# EAGLE library part PGA2320IDW (library Fugu_LSI)
Stereo Audio Volume Control
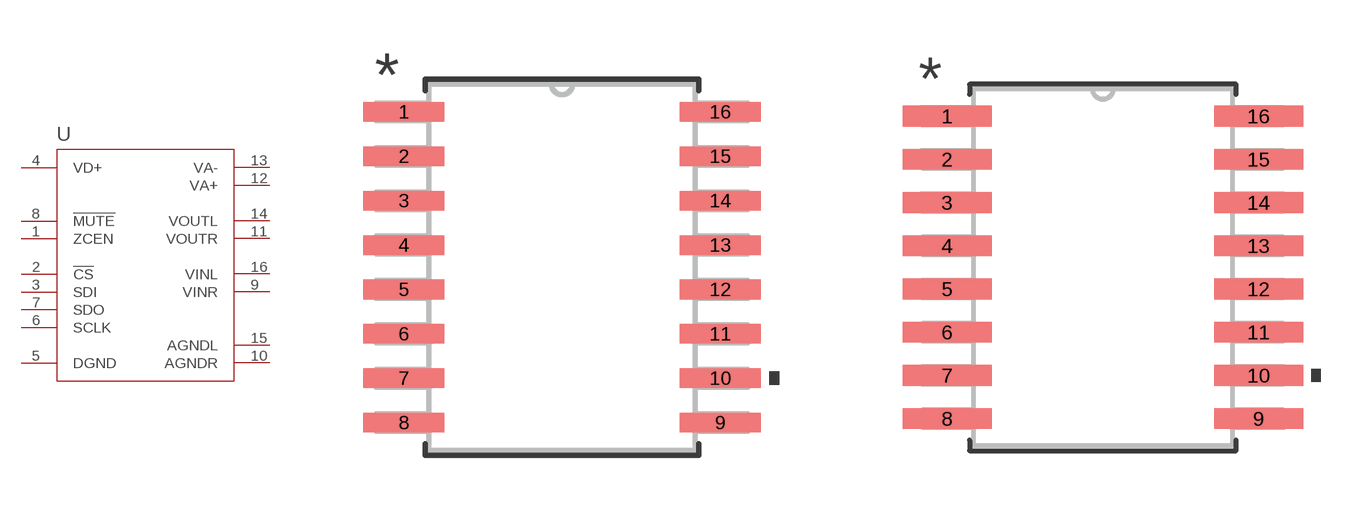
[diagram p34: symbol with the pads of DW16; footprints DW16, DW16-M]

Designator prefix U

## PGA2320IDW (MANUFACTURER_PART_NUMBER: PGA2320IDW; VENDOR: Texas Instruments)  [DW16]
1  ZCEN  in
2  !CS  in
3  SDI  in
4  VD+  pwr
5  DGND  pwr
6  SCLK  in
7  SDO  out
8  !MUTE  in
9  VINR  in
10  AGNDR  pwr
11  VOUTR  out
12  VA+  pwr
13  VA-  pwr
14  VOUTL  out
15  AGNDL  pwr
16  VINL  in

## PGA2320IDWDW16-M (MANUFACTURER_PART_NUMBER: PGA2320IDW; VENDOR: Texas Instruments)  [DW16-M]
Pads as for DW16

## PGA2320IDWDW16-L (MANUFACTURER_PART_NUMBER: PGA2320IDW; VENDOR: Texas Instruments)  [DW16-L]
Pads as for DW16

## Footprint DW16 (pad centres in mm)
smd 2.311 x 0.559: 1 -4.521,4.445; 2 -4.521,3.175; 3 -4.521,1.905; 4 -4.521,0.635; 5 -4.521,-0.635; 6 -4.521,-1.905; 7 -4.521,-3.175; 8 -4.521,-4.445; 9 4.521,-4.445; 10 4.521,-3.175; 11 4.521,-1.905; 12 4.521,-0.635; 13 4.521,0.635; 14 4.521,1.905; 15 4.521,3.175; 16 4.521,4.445

## Footprint DW16-M (pad centres in mm)
smd 2.616 x 0.61: 1 -4.572,4.445; 2 -4.572,3.175; 3 -4.572,1.905; 4 -4.572,0.635; 5 -4.572,-0.635; 6 -4.572,-1.905; 7 -4.572,-3.175; 8 -4.572,-4.445; 9 4.572,-4.445; 10 4.572,-3.175; 11 4.572,-1.905; 12 4.572,-0.635; 13 4.572,0.635; 14 4.572,1.905; 15 4.572,3.175; 16 4.572,4.445

## Footprint DW16-L (pad centres in mm)
smd 2.007 x 0.508: 1 -4.47,4.445; 2 -4.47,3.175; 3 -4.47,1.905; 4 -4.47,0.635; 5 -4.47,-0.635; 6 -4.47,-1.905; 7 -4.47,-3.175; 8 -4.47,-4.445; 9 4.47,-4.445; 10 4.47,-3.175; 11 4.47,-1.905; 12 4.47,-0.635; 13 4.47,0.635; 14 4.47,1.905; 15 4.47,3.175; 16 4.47,4.445